# Altium integrated library nrf51422_qfaa_dcdc.IntLib: 7 symbols
Pins are listed as number, name and electrical type; pins without a type are passive.

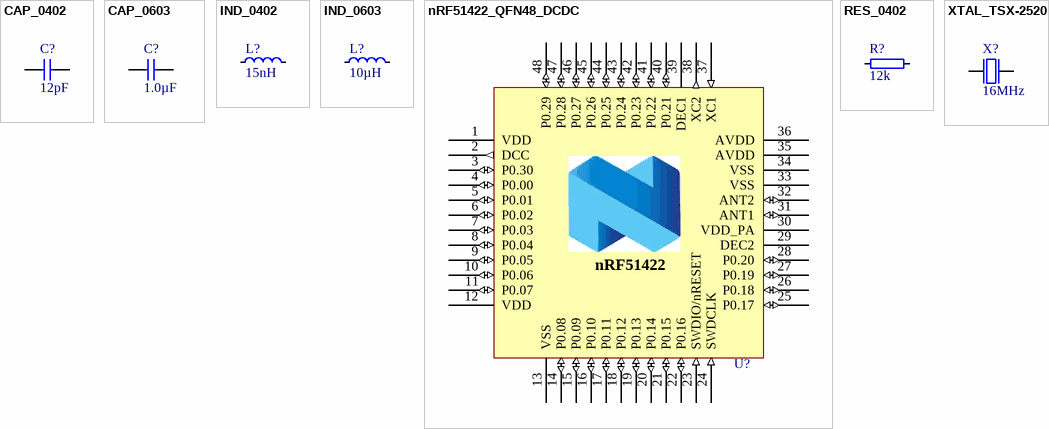
[diagram p0: symbols CAP_0402 to XTAL_TSX-2520]

## CAP_0402
designator C?, comment 12pF
Capacitor, NP0, ±2%; Part Number: C0402-12p; Note: 50V; Artikkelnr Noca: 20029159; Manufacturer: *; Manufacturer Part Number: *; Datasheet: *; Footprint: 0402; LatestRevisionDate: 2011-05-11; Pin Count: 2; Publisher: Nordic Semiconductor; Published: 2009-05-08; Value: 12pF; Supplier: *; Supplier part number: *; 2nd source Supplier: *; 2nd source part number: *
footprint CAPC1005X04L
pins: 1, 2

## CAP_0603
designator C?, comment 1.0µF
Capacitor, X7R, ±10%; Part Number: C0603-1µ0 X7R; Note: 16V; Artikkelnr Noca: 20039335; Manufacturer: *; Manufacturer Part Number: *; Datasheet: *; Footprint: 0603; LatestRevisionDate: 2010-02-24; Pin Count: 2; Publisher: Nordic Semiconductor; Published: 2010-02-24; Value: 1.0µF; Supplier: *; Supplier part number: *; 2nd source Supplier: *; 2nd source part number: *
footprint CAPC1608X06L
pins: 1, 2

## IND_0402
designator L?, comment 15nH
Inductor, 320mA, ±5%; Part Number: L0402-15n; Manufacturer: Taiyo Yuden; Manufacturer Part Number: HK100515NJ-T; 2nd source part number: 658-1328; Note: High frequency chip inductor ±10%; Artikkelnr Noca: 33029323; Footprint: 0402; LatestRevisionDate: 2012-09-19; Pin Count: 2; Publisher: Nordic Semiconductor; Published: 2010-07-12; Value: 15nH; Supplier: Digi-Key; Datasheet: http://www.yuden.co.jp/productdata/catalog/en/mlci04_e.pdf; Supplier part number: 587-1521-1-ND; 2nd source Supplier: Farnell
footprint INDC1005X04L
pins: 1, 2

## IND_0603
designator L?, comment 10µH
Inductor, 80mA, ±10%; Part Number: L0603-10µ; Manufacturer: Taiyo Yuden; Manufacturer Part Number: LBMF1608T100K; 2nd source part number: 178-6105; Note: LBMF1608T100K 10µH 80mA 0603; Artikkelnr Noca: 33029314; Datasheet: http://www.yuden.co.jp/ut/product/pdf/elb2_e.pdf; Footprint: 0603; LatestRevisionDate: 2012-09-19; Pin Count: 2; Publisher: Nordic Semiconductor; Published: 2010-02-24; Value: 10µH; Supplier: Digi-Key; Supplier part number: 587-1714-1-ND; 2nd source Supplier: Farnell
footprint INDC1608X06L
pins: 1, 2

## nRF51422_QFN48_DCDC
designator U?, comment nRF51422-QFAA  (value not drawn)
Multi-protocol ANT System-on-Chip; Part Number: nRF51422-Q48-6x6_DCDC; Manufacturer: Nordic Semiconductor; Note: nRF51422 - QFN48 6x6 0.4mm pitch; Artikkelnr Noca: 15079202; Manufacturer Part Number: nRF51422-QFAA; Datasheet: *; Footprint: QFN-48; LatestRevisionDate: 2012-07-10; Pin Count: 48; Publisher: Nordic Semiconductor; Published: 2012-07-08; Value: nRF51422-QFAA; Supplier: Nordic Semiconductor; Supplier part number: *; 2nd source Supplier: *; 2nd source part number: *
footprint QFN40P600X600X90-48N
pins: 1 VDD (power), 2 DCC (out), 3 P0.30 (io), 4 P0.00 (io), 5 P0.01 (io), 6 P0.02 (io), 7 P0.03 (io), 8 P0.04 (io), 9 P0.05 (io), 10 P0.06 (io), 11 P0.07 (io), 12 VDD (power), 13 VSS (power), 14 P0.08 (io), 15 P0.09 (io), 16 P0.10 (io), 17 P0.11 (io), 18 P0.12 (io), 19 P0.13 (io), 20 P0.14 (io), 21 P0.15 (io), 22 P0.16 (io), 23 SWDIO/nRESET (in), 24 SWDCLK (in), 25 P0.17 (io), 26 P0.18 (io), 27 P0.19 (io), 28 P0.20 (io), 29 DEC2 (power), 30 VDD_PA (power), 31 ANT1 (io), 32 ANT2 (io), 33 VSS (power), 34 VSS (power), 35 AVDD (power), 36 AVDD (power), 37 XC1 (in), 38 XC2 (out), 39 DEC1 (power), 40 P0.21 (io), 41 P0.22 (io), 42 P0.23 (io), 43 P0.24 (io), 44 P0.25 (io), 45 P0.26 (io), 46 P0.27 (io), 47 P0.28 (io), 48 P0.29 (io), 49 (power) hidden to GND
text: nRF51422

## RES_0402
designator R?, comment 12k
Resistor, ±1%, 0.063W; Part Number: R0402-12k; Note: Chip Res 1%; Artikkelnr Noca: 27049099; Manufacturer: *; Manufacturer Part Number: *; Datasheet: *; Footprint: 0402; LatestRevisionDate: 2009-11-23; Pin Count: 2; Publisher: Nordic Semiconductor; Published: 2009-05-08; Value: 12k; Supplier: Farnell; Supplier part number: 173-8865; 2nd source Supplier: *; 2nd source part number: *
footprint RESC1005X04L
pins: 1, 2

## XTAL_TSX-2520
designator X?, comment 16MHz
XTAL SMD 2520, 16MHz, 8pF, ±40ppm; Part Number: NX2520SA-16MHZ-STD-CSW-5; Manufacturer: NDK; Note: XTAL SMD 16.000MHz; Artikkelnr Noca: 22019192; Manufacturer Part Number: NX2520SA-16MHZ-STD-CSW-5; Datasheet: http://www.ndk.com/images/products/catalog/c_NX2520SA-STD-CSW-5_e.pdf; Footprint: BT-XTAL_2520; LatestRevisionDate: 2012-06-15; Pin Count: 4; Publisher: Nordic Semiconductor; Published: 2012-06-15; Value: 16MHz; Supplier: Digi-Key; Supplier part number: 644-1169-1-ND; 2nd source Supplier: *; 2nd source part number: *
footprint BT-XTAL_2520
pins: 1 inp, 2 GND hidden to GND, 3 out, 4 GND hidden to GND